# EAGLE library part EXB28V (library resistor-array)
EXB Series (0402) - Panasonic 4 Resistors, 8 Terminations
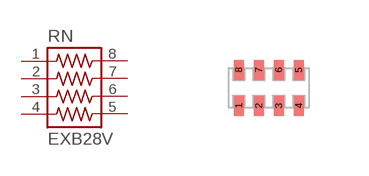
[diagram p20: symbol with the pads of EXB28V; footprint EXB28V]

Designator prefix RN

## EXB28V  [EXB28V]
1  1  pas
2  2  pas
3  3  pas
4  4  pas
5  5  pas
6  6  pas
7  7  pas
8  8  pas

## Footprint EXB28V (pad centres in mm)
EXB28V (0402) - Panasonic
smd 0.25 x 0.5: 1 -0.75,-0.45; 2 -0.25,-0.45; 3 0.25,-0.45; 4 0.75,-0.45; 5 0.75,0.45; 6 0.25,0.45; 7 -0.25,0.45; 8 -0.75,0.45